# Altium footprint library Zener.PcbLib: 1 footprints
Each footprint in its own frame and in the unit in brackets; x right, y up, seen from the top. Pads: shape width x height; smd on the part's side, far side on the other; paste and mask are expansions set on the pad; w line width, h text height; cw(c..) or ccw(c..) is an arc to the next point about the centre after c.
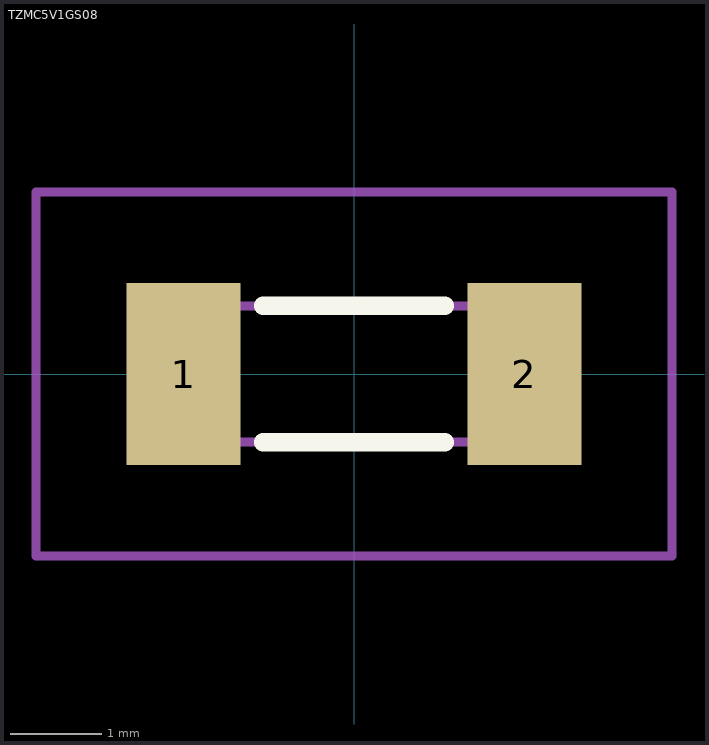
[diagram p0: the footprint, top view; thin cyan lines are the x and y axes]

## TZMC5V1GS08 [mm]
pads (2):
  rect 1.25x2 smd: 1(-1.875,0) 2(1.875,0)
Top Overlay:
  lines w0.2: -1,-0.75 1,-0.75 ; -1,0.75 1,0.75
Mechanical 13:
  lines w0.1: -1.75,-0.75 -1.75,0.75 1.75,0.75 1.75,-0.75 -1.75,-0.75
Mechanical 15:
  lines w0.1: -3.5,-2 -3.5,2 3.5,2 3.5,-2 -3.5,-2